# Altium integrated library Wurth_Elektronik_Passive_rev16a.IntLib: 1143 symbols (part 5 of 28)
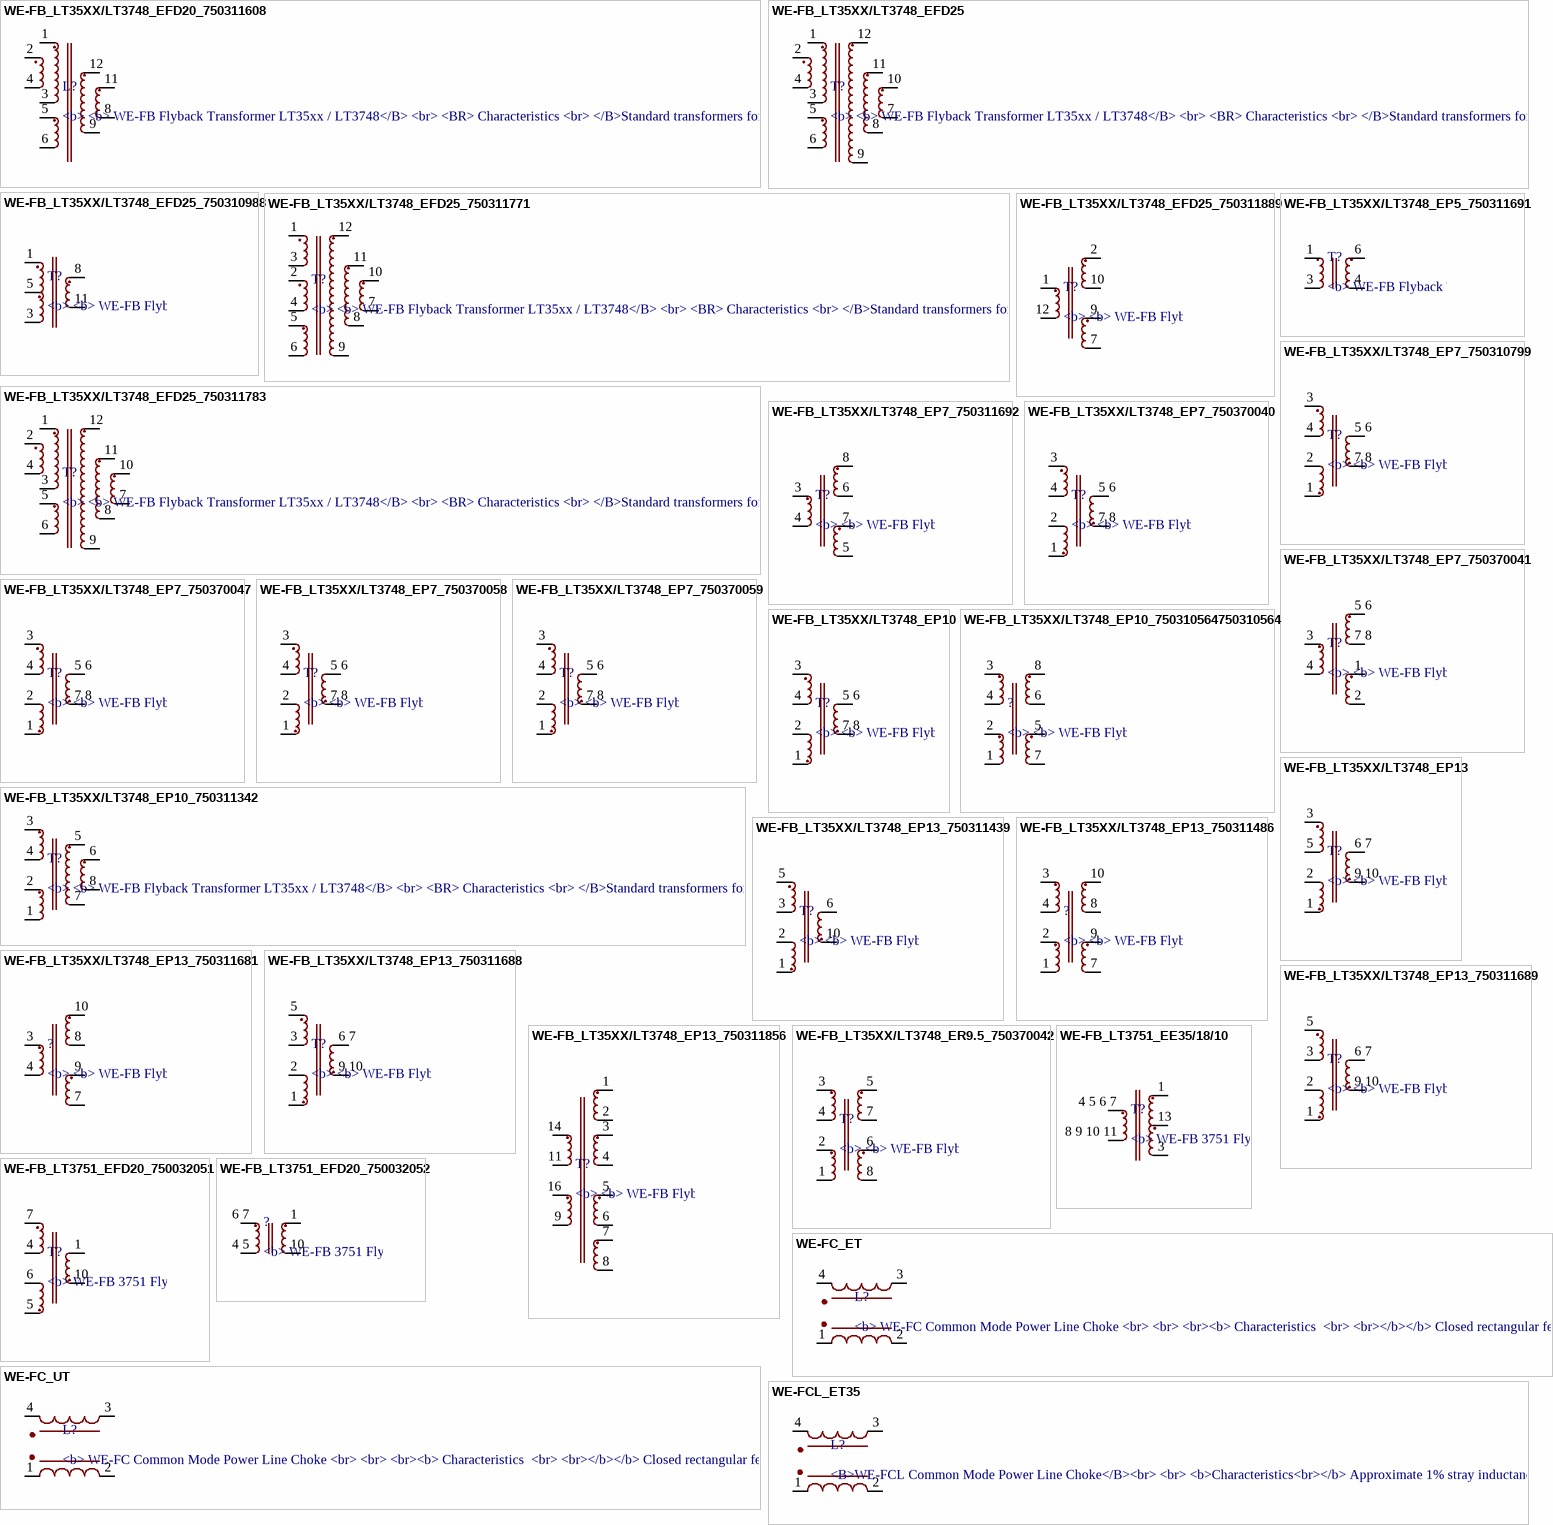
[diagram p62: symbols WE-FB_LT35XX/LT3748_EFD20_750311608 to WE-FCL_ET35]

## WE-FB_LT35XX/LT3748_EP13_750311856
designator T?, comment <b> <b> WE-FB Flyback Transformer LT35xx / LT3748</B> / <br> / <BR> / Characteristics / <br> </B>Standard transformers for various output voltages currents available<BR></B> / Easy design of custom power supply due to standard circuit and change of transformers and two components for feedback loop<BR> / Isolation voltage up to 2.5 kV / <br> / <br> / <br><b> Applications <BR> / </B> Isolated power design<BR> / Sensor interfaces<BR> / Isolated telecom converters<BR> / Power over Ethernet<BR> / <br> / <br> / <br> / <br><a href="http://katalog.we-online.de/media/images/eisos/UtFB_LT_MID_pf2.jpg" title="Enlarge picture"> / <img src="http://katalog.we-online.de/media/thumbs2/eisos/thb_UtFB_LT_MID_pf2.jpg" width="320"></a><p> / Details see: <a href="http://katalog.we-online.de/en/pbs/WE-FB_Linear?">http://katalog.we-online.de/en/pbs/WE-FB_Linear?</a><p> / Updated 2015-04-03<br> / 2015 (C) Wurth Elektronik / <br>
footprint WE-FB_EP13_DIMENSION2
pins: 1 2, 2 3, 3 4, 4 5, 5 6, 6 7, 7 8, 8 9, 9 10, 11 12, 14 1, 16 11

## WE-FB_LT35XX/LT3748_ER9.5_750370042
designator T?, comment <b> <b> WE-FB Flyback Transformer LT35xx / LT3748</B> / <br> / <BR> / Characteristics / <br> </B>Standard transformers for various output voltages currents available<BR></B> / Easy design of custom power supply due to standard circuit and change of transformers and two components for feedback loop<BR> / Isolation voltage up to 2.5 kV / <br> / <br> / <br><b> Applications <BR> / </B> Isolated power design<BR> / Sensor interfaces<BR> / Isolated telecom converters<BR> / Power over Ethernet<BR> / <br> / <br> / <br> / <br><a href="http://katalog.we-online.de/media/images/eisos/UtFB_LT_MID_pf2.jpg" title="Enlarge picture"> / <img src="http://katalog.we-online.de/media/thumbs2/eisos/thb_UtFB_LT_MID_pf2.jpg" width="320"></a><p> / Details see: <a href="http://katalog.we-online.de/en/pbs/WE-FB_Linear?">http://katalog.we-online.de/en/pbs/WE-FB_Linear?</a><p> / Updated 2015-04-03<br> / 2015 (C) Wurth Elektronik / <br>
footprint WE-FB_ER9.5
pins: 1 6, 2 7, 3 1, 4 8, 5 2, 6 4, 7 3, 8 5

## WE-FB_LT3751_EE35/18/10
designator T?, comment <b> WE-FB 3751 Flyback Transformer for LT3751 / <br> / <br> / <br><b> Characteristics / <br> / <br></b></b> Isolation voltage: 1 kVAC / <br> / <br> Operating temperature: –40 ºC to +125 ºC (incl. self-heating) / <br> / <br> Especially designed for LT3751 / <br> / <br> / <br><b> Applications / <br> / <br></b> Transformer for capacitor charger or high voltage outputs / <br> / <br> / <br> / <br><a href="http://katalog.we-online.de/media/images/eisos/UtFB_3751_pf2.jpg" title="Enlarge picture"> / <img src="http://katalog.we-online.de/media/images/eisos/UtFB_3751_pf2.jpg" width="320"></a><p> / Details see: <a href="http://katalog.we-online.de/en/pbs/WE-FB_3751?">http://katalog.we-online.de/en/pbs/WE-FB_3751?</a><p> / Updated by  Dan Xu 2014-07-07<br> / 2014 (C) Wurth Elektronik
footprint WE_EE35/18/10_THT_HORIZONTAL_14PIN
pins: 1 2, 3 4, 4 5 6 7 1, 8 9 10 11 5, 13 3

## WE-FB_LT3751_EFD20_750032051
designator T?, comment <b> WE-FB 3751 Flyback Transformer for LT3751 / <br> / <br> / <br><b> Characteristics / <br> / <br></b></b> Isolation voltage: 1 kVAC / <br> / <br> Operating temperature: –40 ºC to +125 ºC (incl. self-heating) / <br> / <br> Especially designed for LT3751 / <br> / <br> / <br><b> Applications / <br> / <br></b> Transformer for capacitor charger or high voltage outputs / <br> / <br> / <br> / <br><a href="http://katalog.we-online.de/media/images/eisos/UtFB_3751_pf2.jpg" title="Enlarge picture"> / <img src="http://katalog.we-online.de/media/images/eisos/UtFB_3751_pf2.jpg" width="320"></a><p> / Details see: <a href="http://katalog.we-online.de/en/pbs/WE-FB_3751?">http://katalog.we-online.de/en/pbs/WE-FB_3751?</a><p> / Updated by  Dan Xu 2014-07-07<br> / 2014 (C) Wurth Elektronik
footprint WE-FB_EFD20_10PIN
pins: 1 2, 4 6, 5 4, 6 5, 7 1, 10 3

## WE-FB_LT3751_EFD20_750032052
designator ?, comment <b> WE-FB 3751 Flyback Transformer for LT3751 / <br> / <br> / <br><b> Characteristics / <br> / <br></b></b> Isolation voltage: 1 kVAC / <br> / <br> Operating temperature: –40 ºC to +125 ºC (incl. self-heating) / <br> / <br> Especially designed for LT3751 / <br> / <br> / <br><b> Applications / <br> / <br></b> Transformer for capacitor charger or high voltage outputs / <br> / <br> / <br> / <br><a href="http://katalog.we-online.de/media/images/eisos/UtFB_3751_pf2.jpg" title="Enlarge picture"> / <img src="http://katalog.we-online.de/media/images/eisos/UtFB_3751_pf2.jpg" width="320"></a><p> / Details see: <a href="http://katalog.we-online.de/en/pbs/WE-FB_3751?">http://katalog.we-online.de/en/pbs/WE-FB_3751?</a><p> / Updated by  Dan Xu 2014-07-07<br> / 2014 (C) Wurth Elektronik
footprint 750032052
pins: 1 2, 4 5 6, 6 7 1, 10 3

## WE-FC_ET
designator L?, comment <b> WE-FC Common Mode Power Line Choke / <br> / <br> / <br><b> Characteristics / <br> / <br></b></b> Closed rectangular ferrite core / <BR> / <BR> 2-section winding for excellent high frequency performance / <BR> / <BR> 1% stray inductance for symmetrical interference suppression / <BR> / <BR> Operating temperature: –25 °C to +125 °C / <br> / <br> / <br><b> Applications / <br> / <br></b> Switch mode power supplies / <BR> / <BR> Electronic ballasts for lamps / <BR> / <BR> Suppression of common mode noise / <br> / <br> / <br><a href="http://katalog.we-online.de/media/images/eisos/IndFC_MID_pf2.jpg" title="Enlarge picture"> / <img src="http://katalog.we-online.de/media/images/eisos/IndFC_MID_pf2.jpg" width="320"></a><p> / Details see: <a href="http://katalog.we-online.de/en/pbs/WE-FC?">http://katalog.we-online.de/en/pbs/WE-FC?</a><p> / Updated by  Dan Xu 2014-07-07<br> / 2014 (C) Wurth Elektronik
footprint WE-FC_ET
pins: 1 4, 2 3, 3 2, 4 1

## WE-FC_UT
designator L?, comment <b> WE-FC Common Mode Power Line Choke / <br> / <br> / <br><b> Characteristics / <br> / <br></b></b> Closed rectangular ferrite core / <BR> / <BR> 2-section winding for excellent high frequency performance / <BR> / <BR> 1% stray inductance for symmetrical interference suppression / <BR> / <BR> Operating temperature: –25 °C to +125 °C / <br> / <br> / <br><b> Applications / <br> / <br></b> Switch mode power supplies / <BR> / <BR> Electronic ballasts for lamps / <BR> / <BR> Suppression of common mode noise / <br> / <br> / <br><a href="http://katalog.we-online.de/media/images/eisos/IndFC_MID_pf2.jpg" title="Enlarge picture"> / <img src="http://katalog.we-online.de/media/images/eisos/IndFC_MID_pf2.jpg" width="320"></a><p> / Details see: <a href="http://katalog.we-online.de/en/pbs/WE-FC?">http://katalog.we-online.de/en/pbs/WE-FC?</a><p> / Updated by  Dan Xu 2014-07-07<br> / 2014 (C) Wurth Elektronik
footprint WE-FC_UT
pins: 1 4, 2 3, 3 2, 4 1

## WE-FCL_ET35
designator L?, comment <B>WE-FCL Common Mode Power Line Choke</B><br> / <br> / <b>Characteristics<br></b> / Approximate 1% stray inductance for symmetrical interference suppression<br> / Closed rectangular ferrite core<br> / Attenuation up to 75 dB with high rated current<br> / Inductance tolerance: +50 %/-30%<br> / Operating temperature: -40°C up to +125°C<br> / <br> / <b>Application<br></b> / Mains filter<br> / Suppression of common mode noise<br> / Switch mode power supplies<br> / Electronic ballast applications<br> / Lighting<br> / White goods<br> / <br><a href="http://katalog.we-online.de/media/images/eisos/IndFCL_pf2.jpg" title="Enlarge picture"> / <img src="http://katalog.we-online.de/media/images/eisos/IndFCL_pf2.jpg" width="320"></a><p> / Details see: <a href="http://katalog.we-online.de/en/pbs/WE-FCL">http://katalog.we-online.de/en/pbs/WE-FCL?</a><p> / Updated on 2014-08-05<br> / 2015 (C) Wurth Elektronik
footprint WE-FCL_ET35
pins: 1 4, 2 3, 3 2, 4 1

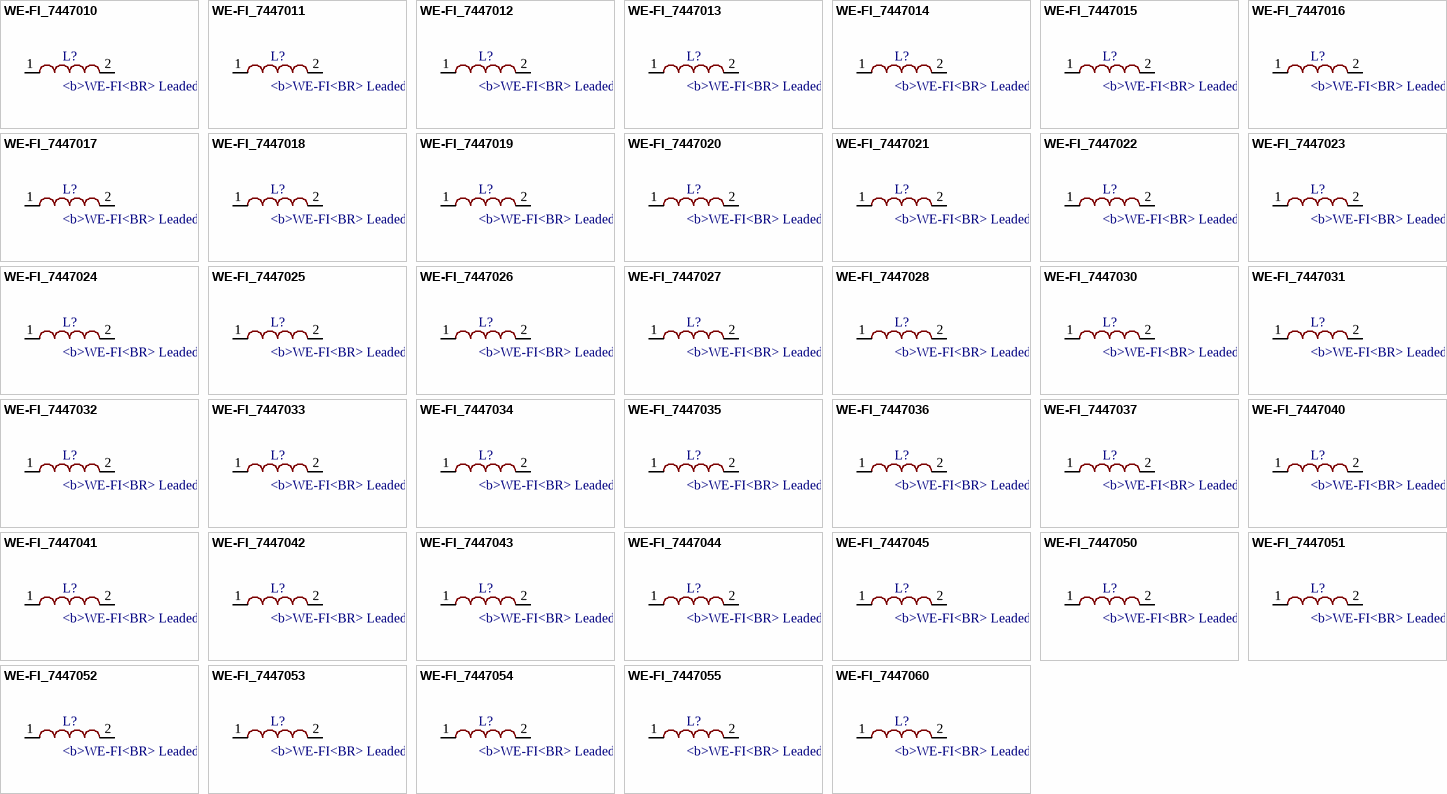
[diagram p7: symbols WE-FI_7447010 to WE-FI_7447060]

## WE-FI_7447010
designator L?, comment <b>WE-FI<BR> / Leaded Toroidal Line Choke</B> / <P> <font color="#0000FF"><B>Characteristics</B></font></td><BR> / Current loading up to 5 A<BR> / Iron powder cores with low losses<BR> / Low magnetically leakage field<BR> / Operating temperature: -25 C to +125 C<BR> / Custom designs on reques<BR> / <P> <font color="#0000FF"><B>Applications</B></font></td><BR> / Application in voltage transformers and power supplies<BR> / For interference frequencies up to 10 MHz; for switching frequencies up to 100 kHz<BR> / Perfect for filtering of symmetric interferences<BR> / <br><a href="http://katalog.we-online.de/media/thumbs2/eisos/thb_IndFI_pf2.jpg"> / <img src="http://katalog.we-online.de/media/thumbs2/eisos/thb_IndFI_pf2.jpg" width="320"></a><p> / Details see: <a href="http://katalog.we-online.de/pbs/datasheet/7447010.pdf">http://katalog.we-online.de/pbs/datasheet/7447010.pdf</a><p> / Updated on 2015-06-16<br> / 2015 (C) Wurth Elektronik
footprint WE-FI_7447010
pins: 1, 2

## WE-FI_7447011
designator L?, comment <b>WE-FI<BR> / Leaded Toroidal Line Choke</B> / <P> <font color="#0000FF"><B>Characteristics</B></font></td><BR> / Current loading up to 5 A<BR> / Iron powder cores with low losses<BR> / Low magnetically leakage field<BR> / Operating temperature: -25 C to +125 C<BR> / Custom designs on reques<BR> / <P> <font color="#0000FF"><B>Applications</B></font></td><BR> / Application in voltage transformers and power supplies<BR> / For interference frequencies up to 10 MHz; for switching frequencies up to 100 kHz<BR> / Perfect for filtering of symmetric interferences<BR> / <br><a href="http://katalog.we-online.de/media/thumbs2/eisos/thb_IndFI_pf2.jpg"> / <img src="http://katalog.we-online.de/media/thumbs2/eisos/thb_IndFI_pf2.jpg" width="320"></a><p> / Details see: <a href="http://katalog.we-online.de/pbs/datasheet/7447010.pdf">http://katalog.we-online.de/pbs/datasheet/7447010.pdf</a><p> / Updated on 2015-06-16<br> / 2015 (C) Wurth Elektronik
footprint WE-FI_7447011
pins: 1, 2

## WE-FI_7447012
designator L?, comment <b>WE-FI<BR> / Leaded Toroidal Line Choke</B> / <P> <font color="#0000FF"><B>Characteristics</B></font></td><BR> / Current loading up to 5 A<BR> / Iron powder cores with low losses<BR> / Low magnetically leakage field<BR> / Operating temperature: -25 C to +125 C<BR> / Custom designs on reques<BR> / <P> <font color="#0000FF"><B>Applications</B></font></td><BR> / Application in voltage transformers and power supplies<BR> / For interference frequencies up to 10 MHz; for switching frequencies up to 100 kHz<BR> / Perfect for filtering of symmetric interferences<BR> / <br><a href="http://katalog.we-online.de/media/thumbs2/eisos/thb_IndFI_pf2.jpg"> / <img src="http://katalog.we-online.de/media/thumbs2/eisos/thb_IndFI_pf2.jpg" width="320"></a><p> / Details see: <a href="http://katalog.we-online.de/pbs/datasheet/7447010.pdf">http://katalog.we-online.de/pbs/datasheet/7447010.pdf</a><p> / Updated on 2015-06-16<br> / 2015 (C) Wurth Elektronik
footprint WE-FI_7447012
pins: 1, 2

## WE-FI_7447013
designator L?, comment <b>WE-FI<BR> / Leaded Toroidal Line Choke</B> / <P> <font color="#0000FF"><B>Characteristics</B></font></td><BR> / Current loading up to 5 A<BR> / Iron powder cores with low losses<BR> / Low magnetically leakage field<BR> / Operating temperature: -25 C to +125 C<BR> / Custom designs on reques<BR> / <P> <font color="#0000FF"><B>Applications</B></font></td><BR> / Application in voltage transformers and power supplies<BR> / For interference frequencies up to 10 MHz; for switching frequencies up to 100 kHz<BR> / Perfect for filtering of symmetric interferences<BR> / <br><a href="http://katalog.we-online.de/media/thumbs2/eisos/thb_IndFI_pf2.jpg"> / <img src="http://katalog.we-online.de/media/thumbs2/eisos/thb_IndFI_pf2.jpg" width="320"></a><p> / Details see: <a href="http://katalog.we-online.de/pbs/datasheet/7447010.pdf">http://katalog.we-online.de/pbs/datasheet/7447010.pdf</a><p> / Updated on 2015-06-16<br> / 2015 (C) Wurth Elektronik
footprint WE-FI_7447013
pins: 1, 2

## WE-FI_7447014
designator L?, comment <b>WE-FI<BR> / Leaded Toroidal Line Choke</B> / <P> <font color="#0000FF"><B>Characteristics</B></font></td><BR> / Current loading up to 5 A<BR> / Iron powder cores with low losses<BR> / Low magnetically leakage field<BR> / Operating temperature: -25 C to +125 C<BR> / Custom designs on reques<BR> / <P> <font color="#0000FF"><B>Applications</B></font></td><BR> / Application in voltage transformers and power supplies<BR> / For interference frequencies up to 10 MHz; for switching frequencies up to 100 kHz<BR> / Perfect for filtering of symmetric interferences<BR> / <br><a href="http://katalog.we-online.de/media/thumbs2/eisos/thb_IndFI_pf2.jpg"> / <img src="http://katalog.we-online.de/media/thumbs2/eisos/thb_IndFI_pf2.jpg" width="320"></a><p> / Details see: <a href="http://katalog.we-online.de/pbs/datasheet/7447010.pdf">http://katalog.we-online.de/pbs/datasheet/7447010.pdf</a><p> / Updated on 2015-06-16<br> / 2015 (C) Wurth Elektronik
footprint WE-FI_7447014
pins: 1, 2

## WE-FI_7447015
designator L?, comment <b>WE-FI<BR> / Leaded Toroidal Line Choke</B> / <P> <font color="#0000FF"><B>Characteristics</B></font></td><BR> / Current loading up to 5 A<BR> / Iron powder cores with low losses<BR> / Low magnetically leakage field<BR> / Operating temperature: -25 C to +125 C<BR> / Custom designs on reques<BR> / <P> <font color="#0000FF"><B>Applications</B></font></td><BR> / Application in voltage transformers and power supplies<BR> / For interference frequencies up to 10 MHz; for switching frequencies up to 100 kHz<BR> / Perfect for filtering of symmetric interferences<BR> / <br><a href="http://katalog.we-online.de/media/thumbs2/eisos/thb_IndFI_pf2.jpg"> / <img src="http://katalog.we-online.de/media/thumbs2/eisos/thb_IndFI_pf2.jpg" width="320"></a><p> / Details see: <a href="http://katalog.we-online.de/pbs/datasheet/7447010.pdf">http://katalog.we-online.de/pbs/datasheet/7447010.pdf</a><p> / Updated on 2015-06-16<br> / 2015 (C) Wurth Elektronik
footprint WE-FI_7447015
pins: 1, 2

## WE-FI_7447016
designator L?, comment <b>WE-FI<BR> / Leaded Toroidal Line Choke</B> / <P> <font color="#0000FF"><B>Characteristics</B></font></td><BR> / Current loading up to 5 A<BR> / Iron powder cores with low losses<BR> / Low magnetically leakage field<BR> / Operating temperature: -25 C to +125 C<BR> / Custom designs on reques<BR> / <P> <font color="#0000FF"><B>Applications</B></font></td><BR> / Application in voltage transformers and power supplies<BR> / For interference frequencies up to 10 MHz; for switching frequencies up to 100 kHz<BR> / Perfect for filtering of symmetric interferences<BR> / <br><a href="http://katalog.we-online.de/media/thumbs2/eisos/thb_IndFI_pf2.jpg"> / <img src="http://katalog.we-online.de/media/thumbs2/eisos/thb_IndFI_pf2.jpg" width="320"></a><p> / Details see: <a href="http://katalog.we-online.de/pbs/datasheet/7447010.pdf">http://katalog.we-online.de/pbs/datasheet/7447010.pdf</a><p> / Updated on 2015-06-16<br> / 2015 (C) Wurth Elektronik
footprint WE-FI_7447016
pins: 1, 2

## WE-FI_7447017
designator L?, comment <b>WE-FI<BR> / Leaded Toroidal Line Choke</B> / <P> <font color="#0000FF"><B>Characteristics</B></font></td><BR> / Current loading up to 5 A<BR> / Iron powder cores with low losses<BR> / Low magnetically leakage field<BR> / Operating temperature: -25 C to +125 C<BR> / Custom designs on reques<BR> / <P> <font color="#0000FF"><B>Applications</B></font></td><BR> / Application in voltage transformers and power supplies<BR> / For interference frequencies up to 10 MHz; for switching frequencies up to 100 kHz<BR> / Perfect for filtering of symmetric interferences<BR> / <br><a href="http://katalog.we-online.de/media/thumbs2/eisos/thb_IndFI_pf2.jpg"> / <img src="http://katalog.we-online.de/media/thumbs2/eisos/thb_IndFI_pf2.jpg" width="320"></a><p> / Details see: <a href="http://katalog.we-online.de/pbs/datasheet/7447010.pdf">http://katalog.we-online.de/pbs/datasheet/7447010.pdf</a><p> / Updated on 2015-06-16<br> / 2015 (C) Wurth Elektronik
footprint WE-FI_7447017
pins: 1, 2

## WE-FI_7447018
designator L?, comment <b>WE-FI<BR> / Leaded Toroidal Line Choke</B> / <P> <font color="#0000FF"><B>Characteristics</B></font></td><BR> / Current loading up to 5 A<BR> / Iron powder cores with low losses<BR> / Low magnetically leakage field<BR> / Operating temperature: -25 C to +125 C<BR> / Custom designs on reques<BR> / <P> <font color="#0000FF"><B>Applications</B></font></td><BR> / Application in voltage transformers and power supplies<BR> / For interference frequencies up to 10 MHz; for switching frequencies up to 100 kHz<BR> / Perfect for filtering of symmetric interferences<BR> / <br><a href="http://katalog.we-online.de/media/thumbs2/eisos/thb_IndFI_pf2.jpg"> / <img src="http://katalog.we-online.de/media/thumbs2/eisos/thb_IndFI_pf2.jpg" width="320"></a><p> / Details see: <a href="http://katalog.we-online.de/pbs/datasheet/7447010.pdf">http://katalog.we-online.de/pbs/datasheet/7447010.pdf</a><p> / Updated on 2015-06-16<br> / 2015 (C) Wurth Elektronik
footprint WE-FI_7447018
pins: 1, 2

## WE-FI_7447019
designator L?, comment <b>WE-FI<BR> / Leaded Toroidal Line Choke</B> / <P> <font color="#0000FF"><B>Characteristics</B></font></td><BR> / Current loading up to 5 A<BR> / Iron powder cores with low losses<BR> / Low magnetically leakage field<BR> / Operating temperature: -25 C to +125 C<BR> / Custom designs on reques<BR> / <P> <font color="#0000FF"><B>Applications</B></font></td><BR> / Application in voltage transformers and power supplies<BR> / For interference frequencies up to 10 MHz; for switching frequencies up to 100 kHz<BR> / Perfect for filtering of symmetric interferences<BR> / <br><a href="http://katalog.we-online.de/media/thumbs2/eisos/thb_IndFI_pf2.jpg"> / <img src="http://katalog.we-online.de/media/thumbs2/eisos/thb_IndFI_pf2.jpg" width="320"></a><p> / Details see: <a href="http://katalog.we-online.de/pbs/datasheet/7447010.pdf">http://katalog.we-online.de/pbs/datasheet/7447010.pdf</a><p> / Updated on 2015-06-16<br> / 2015 (C) Wurth Elektronik
footprint WE-FI_7447019
pins: 1, 2

## WE-FI_7447020
designator L?, comment <b>WE-FI<BR> / Leaded Toroidal Line Choke</B> / <P> <font color="#0000FF"><B>Characteristics</B></font></td><BR> / Current loading up to 5 A<BR> / Iron powder cores with low losses<BR> / Low magnetically leakage field<BR> / Operating temperature: -25 C to +125 C<BR> / Custom designs on reques<BR> / <P> <font color="#0000FF"><B>Applications</B></font></td><BR> / Application in voltage transformers and power supplies<BR> / For interference frequencies up to 10 MHz; for switching frequencies up to 100 kHz<BR> / Perfect for filtering of symmetric interferences<BR> / <br><a href="http://katalog.we-online.de/media/thumbs2/eisos/thb_IndFI_pf2.jpg"> / <img src="http://katalog.we-online.de/media/thumbs2/eisos/thb_IndFI_pf2.jpg" width="320"></a><p> / Details see: <a href="http://katalog.we-online.de/pbs/datasheet/7447010.pdf">http://katalog.we-online.de/pbs/datasheet/7447010.pdf</a><p> / Updated on 2015-06-16<br> / 2015 (C) Wurth Elektronik
footprint WE-FI_7447020
pins: 1, 2

## WE-FI_7447021
designator L?, comment <b>WE-FI<BR> / Leaded Toroidal Line Choke</B> / <P> <font color="#0000FF"><B>Characteristics</B></font></td><BR> / Current loading up to 5 A<BR> / Iron powder cores with low losses<BR> / Low magnetically leakage field<BR> / Operating temperature: -25 C to +125 C<BR> / Custom designs on reques<BR> / <P> <font color="#0000FF"><B>Applications</B></font></td><BR> / Application in voltage transformers and power supplies<BR> / For interference frequencies up to 10 MHz; for switching frequencies up to 100 kHz<BR> / Perfect for filtering of symmetric interferences<BR> / <br><a href="http://katalog.we-online.de/media/thumbs2/eisos/thb_IndFI_pf2.jpg"> / <img src="http://katalog.we-online.de/media/thumbs2/eisos/thb_IndFI_pf2.jpg" width="320"></a><p> / Details see: <a href="http://katalog.we-online.de/pbs/datasheet/7447010.pdf">http://katalog.we-online.de/pbs/datasheet/7447010.pdf</a><p> / Updated on 2015-06-16<br> / 2015 (C) Wurth Elektronik
footprint WE-FI_7447021
pins: 1, 2

## WE-FI_7447022
designator L?, comment <b>WE-FI<BR> / Leaded Toroidal Line Choke</B> / <P> <font color="#0000FF"><B>Characteristics</B></font></td><BR> / Current loading up to 5 A<BR> / Iron powder cores with low losses<BR> / Low magnetically leakage field<BR> / Operating temperature: -25 C to +125 C<BR> / Custom designs on reques<BR> / <P> <font color="#0000FF"><B>Applications</B></font></td><BR> / Application in voltage transformers and power supplies<BR> / For interference frequencies up to 10 MHz; for switching frequencies up to 100 kHz<BR> / Perfect for filtering of symmetric interferences<BR> / <br><a href="http://katalog.we-online.de/media/thumbs2/eisos/thb_IndFI_pf2.jpg"> / <img src="http://katalog.we-online.de/media/thumbs2/eisos/thb_IndFI_pf2.jpg" width="320"></a><p> / Details see: <a href="http://katalog.we-online.de/pbs/datasheet/7447010.pdf">http://katalog.we-online.de/pbs/datasheet/7447010.pdf</a><p> / Updated on 2015-06-16<br> / 2015 (C) Wurth Elektronik
footprint WE-FI_7447022
pins: 1, 2

## WE-FI_7447023
designator L?, comment <b>WE-FI<BR> / Leaded Toroidal Line Choke</B> / <P> <font color="#0000FF"><B>Characteristics</B></font></td><BR> / Current loading up to 5 A<BR> / Iron powder cores with low losses<BR> / Low magnetically leakage field<BR> / Operating temperature: -25 C to +125 C<BR> / Custom designs on reques<BR> / <P> <font color="#0000FF"><B>Applications</B></font></td><BR> / Application in voltage transformers and power supplies<BR> / For interference frequencies up to 10 MHz; for switching frequencies up to 100 kHz<BR> / Perfect for filtering of symmetric interferences<BR> / <br><a href="http://katalog.we-online.de/media/thumbs2/eisos/thb_IndFI_pf2.jpg"> / <img src="http://katalog.we-online.de/media/thumbs2/eisos/thb_IndFI_pf2.jpg" width="320"></a><p> / Details see: <a href="http://katalog.we-online.de/pbs/datasheet/7447010.pdf">http://katalog.we-online.de/pbs/datasheet/7447010.pdf</a><p> / Updated on 2015-06-16<br> / 2015 (C) Wurth Elektronik
footprint WE-FI_7447023
pins: 1, 2

## WE-FI_7447024
designator L?, comment <b>WE-FI<BR> / Leaded Toroidal Line Choke</B> / <P> <font color="#0000FF"><B>Characteristics</B></font></td><BR> / Current loading up to 5 A<BR> / Iron powder cores with low losses<BR> / Low magnetically leakage field<BR> / Operating temperature: -25 C to +125 C<BR> / Custom designs on reques<BR> / <P> <font color="#0000FF"><B>Applications</B></font></td><BR> / Application in voltage transformers and power supplies<BR> / For interference frequencies up to 10 MHz; for switching frequencies up to 100 kHz<BR> / Perfect for filtering of symmetric interferences<BR> / <br><a href="http://katalog.we-online.de/media/thumbs2/eisos/thb_IndFI_pf2.jpg"> / <img src="http://katalog.we-online.de/media/thumbs2/eisos/thb_IndFI_pf2.jpg" width="320"></a><p> / Details see: <a href="http://katalog.we-online.de/pbs/datasheet/7447010.pdf">http://katalog.we-online.de/pbs/datasheet/7447010.pdf</a><p> / Updated on 2015-06-16<br> / 2015 (C) Wurth Elektronik
footprint WE-FI_7447024
pins: 1, 2

## WE-FI_7447025
designator L?, comment <b>WE-FI<BR> / Leaded Toroidal Line Choke</B> / <P> <font color="#0000FF"><B>Characteristics</B></font></td><BR> / Current loading up to 5 A<BR> / Iron powder cores with low losses<BR> / Low magnetically leakage field<BR> / Operating temperature: -25 C to +125 C<BR> / Custom designs on reques<BR> / <P> <font color="#0000FF"><B>Applications</B></font></td><BR> / Application in voltage transformers and power supplies<BR> / For interference frequencies up to 10 MHz; for switching frequencies up to 100 kHz<BR> / Perfect for filtering of symmetric interferences<BR> / <br><a href="http://katalog.we-online.de/media/thumbs2/eisos/thb_IndFI_pf2.jpg"> / <img src="http://katalog.we-online.de/media/thumbs2/eisos/thb_IndFI_pf2.jpg" width="320"></a><p> / Details see: <a href="http://katalog.we-online.de/pbs/datasheet/7447010.pdf">http://katalog.we-online.de/pbs/datasheet/7447010.pdf</a><p> / Updated on 2015-06-16<br> / 2015 (C) Wurth Elektronik
footprint WE-FI_7447025
pins: 1, 2

## WE-FI_7447026
designator L?, comment <b>WE-FI<BR> / Leaded Toroidal Line Choke</B> / <P> <font color="#0000FF"><B>Characteristics</B></font></td><BR> / Current loading up to 5 A<BR> / Iron powder cores with low losses<BR> / Low magnetically leakage field<BR> / Operating temperature: -25 C to +125 C<BR> / Custom designs on reques<BR> / <P> <font color="#0000FF"><B>Applications</B></font></td><BR> / Application in voltage transformers and power supplies<BR> / For interference frequencies up to 10 MHz; for switching frequencies up to 100 kHz<BR> / Perfect for filtering of symmetric interferences<BR> / <br><a href="http://katalog.we-online.de/media/thumbs2/eisos/thb_IndFI_pf2.jpg"> / <img src="http://katalog.we-online.de/media/thumbs2/eisos/thb_IndFI_pf2.jpg" width="320"></a><p> / Details see: <a href="http://katalog.we-online.de/pbs/datasheet/7447010.pdf">http://katalog.we-online.de/pbs/datasheet/7447010.pdf</a><p> / Updated on 2015-06-16<br> / 2015 (C) Wurth Elektronik
footprint WE-FI_7447026
pins: 1, 2

## WE-FI_7447027
designator L?, comment <b>WE-FI<BR> / Leaded Toroidal Line Choke</B> / <P> <font color="#0000FF"><B>Characteristics</B></font></td><BR> / Current loading up to 5 A<BR> / Iron powder cores with low losses<BR> / Low magnetically leakage field<BR> / Operating temperature: -25 C to +125 C<BR> / Custom designs on reques<BR> / <P> <font color="#0000FF"><B>Applications</B></font></td><BR> / Application in voltage transformers and power supplies<BR> / For interference frequencies up to 10 MHz; for switching frequencies up to 100 kHz<BR> / Perfect for filtering of symmetric interferences<BR> / <br><a href="http://katalog.we-online.de/media/thumbs2/eisos/thb_IndFI_pf2.jpg"> / <img src="http://katalog.we-online.de/media/thumbs2/eisos/thb_IndFI_pf2.jpg" width="320"></a><p> / Details see: <a href="http://katalog.we-online.de/pbs/datasheet/7447010.pdf">http://katalog.we-online.de/pbs/datasheet/7447010.pdf</a><p> / Updated on 2015-06-16<br> / 2015 (C) Wurth Elektronik
footprint WE-FI_7447027
pins: 1, 2

## WE-FI_7447028
designator L?, comment <b>WE-FI<BR> / Leaded Toroidal Line Choke</B> / <P> <font color="#0000FF"><B>Characteristics</B></font></td><BR> / Current loading up to 5 A<BR> / Iron powder cores with low losses<BR> / Low magnetically leakage field<BR> / Operating temperature: -25 C to +125 C<BR> / Custom designs on reques<BR> / <P> <font color="#0000FF"><B>Applications</B></font></td><BR> / Application in voltage transformers and power supplies<BR> / For interference frequencies up to 10 MHz; for switching frequencies up to 100 kHz<BR> / Perfect for filtering of symmetric interferences<BR> / <br><a href="http://katalog.we-online.de/media/thumbs2/eisos/thb_IndFI_pf2.jpg"> / <img src="http://katalog.we-online.de/media/thumbs2/eisos/thb_IndFI_pf2.jpg" width="320"></a><p> / Details see: <a href="http://katalog.we-online.de/pbs/datasheet/7447010.pdf">http://katalog.we-online.de/pbs/datasheet/7447010.pdf</a><p> / Updated on 2015-06-16<br> / 2015 (C) Wurth Elektronik
footprint WE-FI_7447028
pins: 1, 2

## WE-FI_7447030
designator L?, comment <b>WE-FI<BR> / Leaded Toroidal Line Choke</B> / <P> <font color="#0000FF"><B>Characteristics</B></font></td><BR> / Current loading up to 5 A<BR> / Iron powder cores with low losses<BR> / Low magnetically leakage field<BR> / Operating temperature: -25 C to +125 C<BR> / Custom designs on reques<BR> / <P> <font color="#0000FF"><B>Applications</B></font></td><BR> / Application in voltage transformers and power supplies<BR> / For interference frequencies up to 10 MHz; for switching frequencies up to 100 kHz<BR> / Perfect for filtering of symmetric interferences<BR> / <br><a href="http://katalog.we-online.de/media/thumbs2/eisos/thb_IndFI_pf2.jpg"> / <img src="http://katalog.we-online.de/media/thumbs2/eisos/thb_IndFI_pf2.jpg" width="320"></a><p> / Details see: <a href="http://katalog.we-online.de/pbs/datasheet/7447010.pdf">http://katalog.we-online.de/pbs/datasheet/7447010.pdf</a><p> / Updated on 2015-06-16<br> / 2015 (C) Wurth Elektronik
footprint WE-FI_7447030
pins: 1, 2

## WE-FI_7447031
designator L?, comment <b>WE-FI<BR> / Leaded Toroidal Line Choke</B> / <P> <font color="#0000FF"><B>Characteristics</B></font></td><BR> / Current loading up to 5 A<BR> / Iron powder cores with low losses<BR> / Low magnetically leakage field<BR> / Operating temperature: -25 C to +125 C<BR> / Custom designs on reques<BR> / <P> <font color="#0000FF"><B>Applications</B></font></td><BR> / Application in voltage transformers and power supplies<BR> / For interference frequencies up to 10 MHz; for switching frequencies up to 100 kHz<BR> / Perfect for filtering of symmetric interferences<BR> / <br><a href="http://katalog.we-online.de/media/thumbs2/eisos/thb_IndFI_pf2.jpg"> / <img src="http://katalog.we-online.de/media/thumbs2/eisos/thb_IndFI_pf2.jpg" width="320"></a><p> / Details see: <a href="http://katalog.we-online.de/pbs/datasheet/7447010.pdf">http://katalog.we-online.de/pbs/datasheet/7447010.pdf</a><p> / Updated on 2015-06-16<br> / 2015 (C) Wurth Elektronik
footprint WE-FI_7447031
pins: 1, 2

## WE-FI_7447032
designator L?, comment <b>WE-FI<BR> / Leaded Toroidal Line Choke</B> / <P> <font color="#0000FF"><B>Characteristics</B></font></td><BR> / Current loading up to 5 A<BR> / Iron powder cores with low losses<BR> / Low magnetically leakage field<BR> / Operating temperature: -25 C to +125 C<BR> / Custom designs on reques<BR> / <P> <font color="#0000FF"><B>Applications</B></font></td><BR> / Application in voltage transformers and power supplies<BR> / For interference frequencies up to 10 MHz; for switching frequencies up to 100 kHz<BR> / Perfect for filtering of symmetric interferences<BR> / <br><a href="http://katalog.we-online.de/media/thumbs2/eisos/thb_IndFI_pf2.jpg"> / <img src="http://katalog.we-online.de/media/thumbs2/eisos/thb_IndFI_pf2.jpg" width="320"></a><p> / Details see: <a href="http://katalog.we-online.de/pbs/datasheet/7447010.pdf">http://katalog.we-online.de/pbs/datasheet/7447010.pdf</a><p> / Updated on 2015-06-16<br> / 2015 (C) Wurth Elektronik
footprint WE-FI_7447032
pins: 1, 2

## WE-FI_7447033
designator L?, comment <b>WE-FI<BR> / Leaded Toroidal Line Choke</B> / <P> <font color="#0000FF"><B>Characteristics</B></font></td><BR> / Current loading up to 5 A<BR> / Iron powder cores with low losses<BR> / Low magnetically leakage field<BR> / Operating temperature: -25 C to +125 C<BR> / Custom designs on reques<BR> / <P> <font color="#0000FF"><B>Applications</B></font></td><BR> / Application in voltage transformers and power supplies<BR> / For interference frequencies up to 10 MHz; for switching frequencies up to 100 kHz<BR> / Perfect for filtering of symmetric interferences<BR> / <br><a href="http://katalog.we-online.de/media/thumbs2/eisos/thb_IndFI_pf2.jpg"> / <img src="http://katalog.we-online.de/media/thumbs2/eisos/thb_IndFI_pf2.jpg" width="320"></a><p> / Details see: <a href="http://katalog.we-online.de/pbs/datasheet/7447010.pdf">http://katalog.we-online.de/pbs/datasheet/7447010.pdf</a><p> / Updated on 2015-06-16<br> / 2015 (C) Wurth Elektronik
footprint WE-FI_7447033
pins: 1, 2

## WE-FI_7447034
designator L?, comment <b>WE-FI<BR> / Leaded Toroidal Line Choke</B> / <P> <font color="#0000FF"><B>Characteristics</B></font></td><BR> / Current loading up to 5 A<BR> / Iron powder cores with low losses<BR> / Low magnetically leakage field<BR> / Operating temperature: -25 C to +125 C<BR> / Custom designs on reques<BR> / <P> <font color="#0000FF"><B>Applications</B></font></td><BR> / Application in voltage transformers and power supplies<BR> / For interference frequencies up to 10 MHz; for switching frequencies up to 100 kHz<BR> / Perfect for filtering of symmetric interferences<BR> / <br><a href="http://katalog.we-online.de/media/thumbs2/eisos/thb_IndFI_pf2.jpg"> / <img src="http://katalog.we-online.de/media/thumbs2/eisos/thb_IndFI_pf2.jpg" width="320"></a><p> / Details see: <a href="http://katalog.we-online.de/pbs/datasheet/7447010.pdf">http://katalog.we-online.de/pbs/datasheet/7447010.pdf</a><p> / Updated on 2015-06-16<br> / 2015 (C) Wurth Elektronik
footprint WE-FI_7447034
pins: 1, 2

## WE-FI_7447035
designator L?, comment <b>WE-FI<BR> / Leaded Toroidal Line Choke</B> / <P> <font color="#0000FF"><B>Characteristics</B></font></td><BR> / Current loading up to 5 A<BR> / Iron powder cores with low losses<BR> / Low magnetically leakage field<BR> / Operating temperature: -25 C to +125 C<BR> / Custom designs on reques<BR> / <P> <font color="#0000FF"><B>Applications</B></font></td><BR> / Application in voltage transformers and power supplies<BR> / For interference frequencies up to 10 MHz; for switching frequencies up to 100 kHz<BR> / Perfect for filtering of symmetric interferences<BR> / <br><a href="http://katalog.we-online.de/media/thumbs2/eisos/thb_IndFI_pf2.jpg"> / <img src="http://katalog.we-online.de/media/thumbs2/eisos/thb_IndFI_pf2.jpg" width="320"></a><p> / Details see: <a href="http://katalog.we-online.de/pbs/datasheet/7447010.pdf">http://katalog.we-online.de/pbs/datasheet/7447010.pdf</a><p> / Updated on 2015-06-16<br> / 2015 (C) Wurth Elektronik
footprint WE-FI_7447035
pins: 1, 2

## WE-FI_7447036
designator L?, comment <b>WE-FI<BR> / Leaded Toroidal Line Choke</B> / <P> <font color="#0000FF"><B>Characteristics</B></font></td><BR> / Current loading up to 5 A<BR> / Iron powder cores with low losses<BR> / Low magnetically leakage field<BR> / Operating temperature: -25 C to +125 C<BR> / Custom designs on reques<BR> / <P> <font color="#0000FF"><B>Applications</B></font></td><BR> / Application in voltage transformers and power supplies<BR> / For interference frequencies up to 10 MHz; for switching frequencies up to 100 kHz<BR> / Perfect for filtering of symmetric interferences<BR> / <br><a href="http://katalog.we-online.de/media/thumbs2/eisos/thb_IndFI_pf2.jpg"> / <img src="http://katalog.we-online.de/media/thumbs2/eisos/thb_IndFI_pf2.jpg" width="320"></a><p> / Details see: <a href="http://katalog.we-online.de/pbs/datasheet/7447010.pdf">http://katalog.we-online.de/pbs/datasheet/7447010.pdf</a><p> / Updated on 2015-06-16<br> / 2015 (C) Wurth Elektronik
footprint WE-FI_7447036
pins: 1, 2

## WE-FI_7447037
designator L?, comment <b>WE-FI<BR> / Leaded Toroidal Line Choke</B> / <P> <font color="#0000FF"><B>Characteristics</B></font></td><BR> / Current loading up to 5 A<BR> / Iron powder cores with low losses<BR> / Low magnetically leakage field<BR> / Operating temperature: -25 C to +125 C<BR> / Custom designs on reques<BR> / <P> <font color="#0000FF"><B>Applications</B></font></td><BR> / Application in voltage transformers and power supplies<BR> / For interference frequencies up to 10 MHz; for switching frequencies up to 100 kHz<BR> / Perfect for filtering of symmetric interferences<BR> / <br><a href="http://katalog.we-online.de/media/thumbs2/eisos/thb_IndFI_pf2.jpg"> / <img src="http://katalog.we-online.de/media/thumbs2/eisos/thb_IndFI_pf2.jpg" width="320"></a><p> / Details see: <a href="http://katalog.we-online.de/pbs/datasheet/7447010.pdf">http://katalog.we-online.de/pbs/datasheet/7447010.pdf</a><p> / Updated on 2015-06-16<br> / 2015 (C) Wurth Elektronik
footprint WE-FI_7447037
pins: 1, 2

## WE-FI_7447040
designator L?, comment <b>WE-FI<BR> / Leaded Toroidal Line Choke</B> / <P> <font color="#0000FF"><B>Characteristics</B></font></td><BR> / Current loading up to 5 A<BR> / Iron powder cores with low losses<BR> / Low magnetically leakage field<BR> / Operating temperature: -25 C to +125 C<BR> / Custom designs on reques<BR> / <P> <font color="#0000FF"><B>Applications</B></font></td><BR> / Application in voltage transformers and power supplies<BR> / For interference frequencies up to 10 MHz; for switching frequencies up to 100 kHz<BR> / Perfect for filtering of symmetric interferences<BR> / <br><a href="http://katalog.we-online.de/media/thumbs2/eisos/thb_IndFI_pf2.jpg"> / <img src="http://katalog.we-online.de/media/thumbs2/eisos/thb_IndFI_pf2.jpg" width="320"></a><p> / Details see: <a href="http://katalog.we-online.de/pbs/datasheet/7447010.pdf">http://katalog.we-online.de/pbs/datasheet/7447010.pdf</a><p> / Updated on 2015-06-16<br> / 2015 (C) Wurth Elektronik
footprint WE-FI_7447040
pins: 1, 2

## WE-FI_7447041
designator L?, comment <b>WE-FI<BR> / Leaded Toroidal Line Choke</B> / <P> <font color="#0000FF"><B>Characteristics</B></font></td><BR> / Current loading up to 5 A<BR> / Iron powder cores with low losses<BR> / Low magnetically leakage field<BR> / Operating temperature: -25 C to +125 C<BR> / Custom designs on reques<BR> / <P> <font color="#0000FF"><B>Applications</B></font></td><BR> / Application in voltage transformers and power supplies<BR> / For interference frequencies up to 10 MHz; for switching frequencies up to 100 kHz<BR> / Perfect for filtering of symmetric interferences<BR> / <br><a href="http://katalog.we-online.de/media/thumbs2/eisos/thb_IndFI_pf2.jpg"> / <img src="http://katalog.we-online.de/media/thumbs2/eisos/thb_IndFI_pf2.jpg" width="320"></a><p> / Details see: <a href="http://katalog.we-online.de/pbs/datasheet/7447010.pdf">http://katalog.we-online.de/pbs/datasheet/7447010.pdf</a><p> / Updated on 2015-06-16<br> / 2015 (C) Wurth Elektronik
footprint WE-FI_7447041
pins: 1, 2

## WE-FI_7447042
designator L?, comment <b>WE-FI<BR> / Leaded Toroidal Line Choke</B> / <P> <font color="#0000FF"><B>Characteristics</B></font></td><BR> / Current loading up to 5 A<BR> / Iron powder cores with low losses<BR> / Low magnetically leakage field<BR> / Operating temperature: -25 C to +125 C<BR> / Custom designs on reques<BR> / <P> <font color="#0000FF"><B>Applications</B></font></td><BR> / Application in voltage transformers and power supplies<BR> / For interference frequencies up to 10 MHz; for switching frequencies up to 100 kHz<BR> / Perfect for filtering of symmetric interferences<BR> / <br><a href="http://katalog.we-online.de/media/thumbs2/eisos/thb_IndFI_pf2.jpg"> / <img src="http://katalog.we-online.de/media/thumbs2/eisos/thb_IndFI_pf2.jpg" width="320"></a><p> / Details see: <a href="http://katalog.we-online.de/pbs/datasheet/7447010.pdf">http://katalog.we-online.de/pbs/datasheet/7447010.pdf</a><p> / Updated on 2015-06-16<br> / 2015 (C) Wurth Elektronik
footprint WE-FI_7447042
pins: 1, 2

## WE-FI_7447043
designator L?, comment <b>WE-FI<BR> / Leaded Toroidal Line Choke</B> / <P> <font color="#0000FF"><B>Characteristics</B></font></td><BR> / Current loading up to 5 A<BR> / Iron powder cores with low losses<BR> / Low magnetically leakage field<BR> / Operating temperature: -25 C to +125 C<BR> / Custom designs on reques<BR> / <P> <font color="#0000FF"><B>Applications</B></font></td><BR> / Application in voltage transformers and power supplies<BR> / For interference frequencies up to 10 MHz; for switching frequencies up to 100 kHz<BR> / Perfect for filtering of symmetric interferences<BR> / <br><a href="http://katalog.we-online.de/media/thumbs2/eisos/thb_IndFI_pf2.jpg"> / <img src="http://katalog.we-online.de/media/thumbs2/eisos/thb_IndFI_pf2.jpg" width="320"></a><p> / Details see: <a href="http://katalog.we-online.de/pbs/datasheet/7447010.pdf">http://katalog.we-online.de/pbs/datasheet/7447010.pdf</a><p> / Updated on 2015-06-16<br> / 2015 (C) Wurth Elektronik
footprint WE-FI_7447043
pins: 1, 2

## WE-FI_7447044
designator L?, comment <b>WE-FI<BR> / Leaded Toroidal Line Choke</B> / <P> <font color="#0000FF"><B>Characteristics</B></font></td><BR> / Current loading up to 5 A<BR> / Iron powder cores with low losses<BR> / Low magnetically leakage field<BR> / Operating temperature: -25 C to +125 C<BR> / Custom designs on reques<BR> / <P> <font color="#0000FF"><B>Applications</B></font></td><BR> / Application in voltage transformers and power supplies<BR> / For interference frequencies up to 10 MHz; for switching frequencies up to 100 kHz<BR> / Perfect for filtering of symmetric interferences<BR> / <br><a href="http://katalog.we-online.de/media/thumbs2/eisos/thb_IndFI_pf2.jpg"> / <img src="http://katalog.we-online.de/media/thumbs2/eisos/thb_IndFI_pf2.jpg" width="320"></a><p> / Details see: <a href="http://katalog.we-online.de/pbs/datasheet/7447010.pdf">http://katalog.we-online.de/pbs/datasheet/7447010.pdf</a><p> / Updated on 2015-06-16<br> / 2015 (C) Wurth Elektronik
footprint WE-FI_7447044
pins: 1, 2

## WE-FI_7447045
designator L?, comment <b>WE-FI<BR> / Leaded Toroidal Line Choke</B> / <P> <font color="#0000FF"><B>Characteristics</B></font></td><BR> / Current loading up to 5 A<BR> / Iron powder cores with low losses<BR> / Low magnetically leakage field<BR> / Operating temperature: -25 C to +125 C<BR> / Custom designs on reques<BR> / <P> <font color="#0000FF"><B>Applications</B></font></td><BR> / Application in voltage transformers and power supplies<BR> / For interference frequencies up to 10 MHz; for switching frequencies up to 100 kHz<BR> / Perfect for filtering of symmetric interferences<BR> / <br><a href="http://katalog.we-online.de/media/thumbs2/eisos/thb_IndFI_pf2.jpg"> / <img src="http://katalog.we-online.de/media/thumbs2/eisos/thb_IndFI_pf2.jpg" width="320"></a><p> / Details see: <a href="http://katalog.we-online.de/pbs/datasheet/7447010.pdf">http://katalog.we-online.de/pbs/datasheet/7447010.pdf</a><p> / Updated on 2015-06-16<br> / 2015 (C) Wurth Elektronik
footprint WE-FI_7447045
pins: 1, 2

## WE-FI_7447050
designator L?, comment <b>WE-FI<BR> / Leaded Toroidal Line Choke</B> / <P> <font color="#0000FF"><B>Characteristics</B></font></td><BR> / Current loading up to 5 A<BR> / Iron powder cores with low losses<BR> / Low magnetically leakage field<BR> / Operating temperature: -25 C to +125 C<BR> / Custom designs on reques<BR> / <P> <font color="#0000FF"><B>Applications</B></font></td><BR> / Application in voltage transformers and power supplies<BR> / For interference frequencies up to 10 MHz; for switching frequencies up to 100 kHz<BR> / Perfect for filtering of symmetric interferences<BR> / <br><a href="http://katalog.we-online.de/media/thumbs2/eisos/thb_IndFI_pf2.jpg"> / <img src="http://katalog.we-online.de/media/thumbs2/eisos/thb_IndFI_pf2.jpg" width="320"></a><p> / Details see: <a href="http://katalog.we-online.de/pbs/datasheet/7447010.pdf">http://katalog.we-online.de/pbs/datasheet/7447010.pdf</a><p> / Updated on 2015-06-16<br> / 2015 (C) Wurth Elektronik
footprint WE-FI_7447050
pins: 1, 2

## WE-FI_7447051
designator L?, comment <b>WE-FI<BR> / Leaded Toroidal Line Choke</B> / <P> <font color="#0000FF"><B>Characteristics</B></font></td><BR> / Current loading up to 5 A<BR> / Iron powder cores with low losses<BR> / Low magnetically leakage field<BR> / Operating temperature: -25 C to +125 C<BR> / Custom designs on reques<BR> / <P> <font color="#0000FF"><B>Applications</B></font></td><BR> / Application in voltage transformers and power supplies<BR> / For interference frequencies up to 10 MHz; for switching frequencies up to 100 kHz<BR> / Perfect for filtering of symmetric interferences<BR> / <br><a href="http://katalog.we-online.de/media/thumbs2/eisos/thb_IndFI_pf2.jpg"> / <img src="http://katalog.we-online.de/media/thumbs2/eisos/thb_IndFI_pf2.jpg" width="320"></a><p> / Details see: <a href="http://katalog.we-online.de/pbs/datasheet/7447010.pdf">http://katalog.we-online.de/pbs/datasheet/7447010.pdf</a><p> / Updated on 2015-06-16<br> / 2015 (C) Wurth Elektronik
footprint WE-FI_7447051
pins: 1, 2

## WE-FI_7447052
designator L?, comment <b>WE-FI<BR> / Leaded Toroidal Line Choke</B> / <P> <font color="#0000FF"><B>Characteristics</B></font></td><BR> / Current loading up to 5 A<BR> / Iron powder cores with low losses<BR> / Low magnetically leakage field<BR> / Operating temperature: -25 C to +125 C<BR> / Custom designs on reques<BR> / <P> <font color="#0000FF"><B>Applications</B></font></td><BR> / Application in voltage transformers and power supplies<BR> / For interference frequencies up to 10 MHz; for switching frequencies up to 100 kHz<BR> / Perfect for filtering of symmetric interferences<BR> / <br><a href="http://katalog.we-online.de/media/thumbs2/eisos/thb_IndFI_pf2.jpg"> / <img src="http://katalog.we-online.de/media/thumbs2/eisos/thb_IndFI_pf2.jpg" width="320"></a><p> / Details see: <a href="http://katalog.we-online.de/pbs/datasheet/7447010.pdf">http://katalog.we-online.de/pbs/datasheet/7447010.pdf</a><p> / Updated on 2015-06-16<br> / 2015 (C) Wurth Elektronik
footprint WE-FI_7447052
pins: 1, 2

## WE-FI_7447053
designator L?, comment <b>WE-FI<BR> / Leaded Toroidal Line Choke</B> / <P> <font color="#0000FF"><B>Characteristics</B></font></td><BR> / Current loading up to 5 A<BR> / Iron powder cores with low losses<BR> / Low magnetically leakage field<BR> / Operating temperature: -25 C to +125 C<BR> / Custom designs on reques<BR> / <P> <font color="#0000FF"><B>Applications</B></font></td><BR> / Application in voltage transformers and power supplies<BR> / For interference frequencies up to 10 MHz; for switching frequencies up to 100 kHz<BR> / Perfect for filtering of symmetric interferences<BR> / <br><a href="http://katalog.we-online.de/media/thumbs2/eisos/thb_IndFI_pf2.jpg"> / <img src="http://katalog.we-online.de/media/thumbs2/eisos/thb_IndFI_pf2.jpg" width="320"></a><p> / Details see: <a href="http://katalog.we-online.de/pbs/datasheet/7447010.pdf">http://katalog.we-online.de/pbs/datasheet/7447010.pdf</a><p> / Updated on 2015-06-16<br> / 2015 (C) Wurth Elektronik
footprint WE-FI_7447053
pins: 1, 2

## WE-FI_7447054
designator L?, comment <b>WE-FI<BR> / Leaded Toroidal Line Choke</B> / <P> <font color="#0000FF"><B>Characteristics</B></font></td><BR> / Current loading up to 5 A<BR> / Iron powder cores with low losses<BR> / Low magnetically leakage field<BR> / Operating temperature: -25 C to +125 C<BR> / Custom designs on reques<BR> / <P> <font color="#0000FF"><B>Applications</B></font></td><BR> / Application in voltage transformers and power supplies<BR> / For interference frequencies up to 10 MHz; for switching frequencies up to 100 kHz<BR> / Perfect for filtering of symmetric interferences<BR> / <br><a href="http://katalog.we-online.de/media/thumbs2/eisos/thb_IndFI_pf2.jpg"> / <img src="http://katalog.we-online.de/media/thumbs2/eisos/thb_IndFI_pf2.jpg" width="320"></a><p> / Details see: <a href="http://katalog.we-online.de/pbs/datasheet/7447010.pdf">http://katalog.we-online.de/pbs/datasheet/7447010.pdf</a><p> / Updated on 2015-06-16<br> / 2015 (C) Wurth Elektronik
footprint WE-FI_7447054
pins: 1, 2

## WE-FI_7447055
designator L?, comment <b>WE-FI<BR> / Leaded Toroidal Line Choke</B> / <P> <font color="#0000FF"><B>Characteristics</B></font></td><BR> / Current loading up to 5 A<BR> / Iron powder cores with low losses<BR> / Low magnetically leakage field<BR> / Operating temperature: -25 C to +125 C<BR> / Custom designs on reques<BR> / <P> <font color="#0000FF"><B>Applications</B></font></td><BR> / Application in voltage transformers and power supplies<BR> / For interference frequencies up to 10 MHz; for switching frequencies up to 100 kHz<BR> / Perfect for filtering of symmetric interferences<BR> / <br><a href="http://katalog.we-online.de/media/thumbs2/eisos/thb_IndFI_pf2.jpg"> / <img src="http://katalog.we-online.de/media/thumbs2/eisos/thb_IndFI_pf2.jpg" width="320"></a><p> / Details see: <a href="http://katalog.we-online.de/pbs/datasheet/7447010.pdf">http://katalog.we-online.de/pbs/datasheet/7447010.pdf</a><p> / Updated on 2015-06-16<br> / 2015 (C) Wurth Elektronik
footprint WE-FI_7447055
pins: 1, 2

## WE-FI_7447060
designator L?, comment <b>WE-FI<BR> / Leaded Toroidal Line Choke</B> / <P> <font color="#0000FF"><B>Characteristics</B></font></td><BR> / Current loading up to 5 A<BR> / Iron powder cores with low losses<BR> / Low magnetically leakage field<BR> / Operating temperature: -25 C to +125 C<BR> / Custom designs on reques<BR> / <P> <font color="#0000FF"><B>Applications</B></font></td><BR> / Application in voltage transformers and power supplies<BR> / For interference frequencies up to 10 MHz; for switching frequencies up to 100 kHz<BR> / Perfect for filtering of symmetric interferences<BR> / <br><a href="http://katalog.we-online.de/media/thumbs2/eisos/thb_IndFI_pf2.jpg"> / <img src="http://katalog.we-online.de/media/thumbs2/eisos/thb_IndFI_pf2.jpg" width="320"></a><p> / Details see: <a href="http://katalog.we-online.de/pbs/datasheet/7447010.pdf">http://katalog.we-online.de/pbs/datasheet/7447010.pdf</a><p> / Updated on 2015-06-16<br> / 2015 (C) Wurth Elektronik
footprint WE-FI_7447060
pins: 1, 2

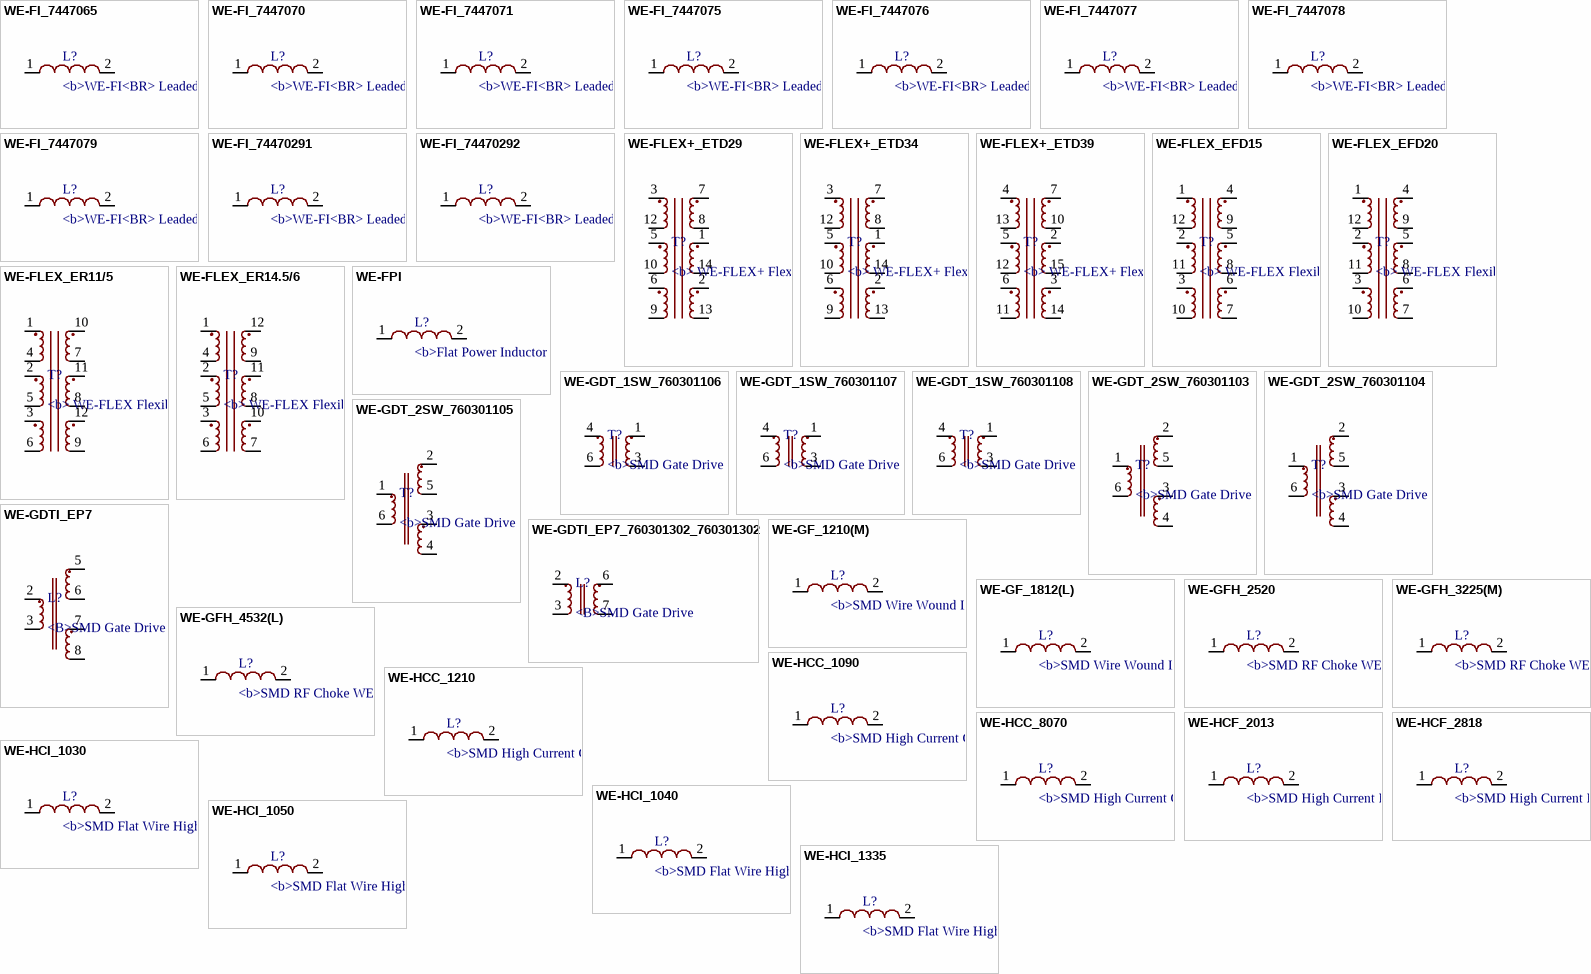
[diagram p8: symbols WE-FI_7447065 to WE-HCI_1335]

## WE-FI_7447065
designator L?, comment <b>WE-FI<BR> / Leaded Toroidal Line Choke</B> / <P> <font color="#0000FF"><B>Characteristics</B></font></td><BR> / Current loading up to 5 A<BR> / Iron powder cores with low losses<BR> / Low magnetically leakage field<BR> / Operating temperature: -25 C to +125 C<BR> / Custom designs on reques<BR> / <P> <font color="#0000FF"><B>Applications</B></font></td><BR> / Application in voltage transformers and power supplies<BR> / For interference frequencies up to 10 MHz; for switching frequencies up to 100 kHz<BR> / Perfect for filtering of symmetric interferences<BR> / <br><a href="http://katalog.we-online.de/media/thumbs2/eisos/thb_IndFI_pf2.jpg"> / <img src="http://katalog.we-online.de/media/thumbs2/eisos/thb_IndFI_pf2.jpg" width="320"></a><p> / Details see: <a href="http://katalog.we-online.de/pbs/datasheet/7447010.pdf">http://katalog.we-online.de/pbs/datasheet/7447010.pdf</a><p> / Updated on 2015-06-16<br> / 2015 (C) Wurth Elektronik
footprint WE-FI_7447065
pins: 1, 2